# Altium schematic symbol library Seeed-OPL-Button.SCHLIB: 9 symbols
Pins are listed as number, name and electrical type; pins without a type are passive.

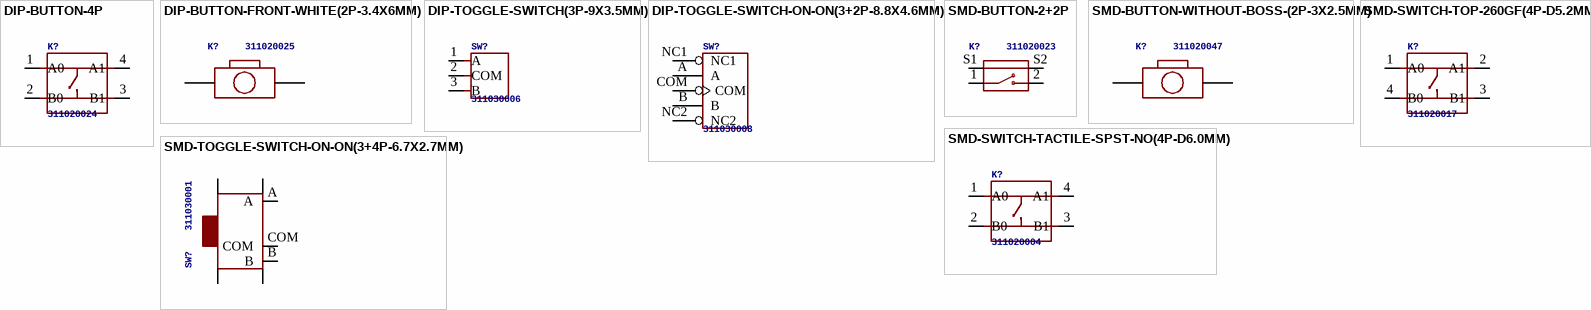
[diagram p0: symbols DIP-BUTTON-4P to SMD-TOGGLE-SWITCH-ON-ON(3+4P-6.7X2.7MM)]

## DIP-BUTTON-4P
designator K?, comment 311020024
MPN: TS-1109
footprint SW4-6.0X6.0X5.0MM
pins: 1 A0, 2 B0, 3 B1, 4 A1

## DIP-BUTTON-FRONT-WHITE(2P-3.4X6MM)
designator K?, comment 311020025
MPN: TS-1101F
footprint SW2-3.4X6.0X3.55MM-90D
pins: P$1 1, P$2 2

## DIP-TOGGLE-SWITCH(3P-9X3.5MM)
designator SW?, comment 311030006
MPN: LD-CCB-001
footprint SW3-2.54-9.0X3.5X3.5+2.0MM
pins: 1 A, 2 COM, 3 B

## DIP-TOGGLE-SWITCH-ON-ON(3+2P-8.8X4.6MM)
designator SW?, comment 311030008
MPN: SK-12D01
footprint SW5-2.0-8.8X4.4X4.7MM-90D
pins: A, B, COM, NC1, NC2

## SMD-BUTTON-2+2P
designator K?, comment 311020023
MPN: TS-1188E
footprint SW4-SMD-7.0X3.5X3.5MM-90D
pins: 1, 2, S1, S2

## SMD-BUTTON-WITHOUT-BOSS-(2P-3X2.5MM)
designator K?, comment 311020047
MPN: B3U-1000P
footprint SW2-SMD-3.0X2.5X1.2+0.4MM
pins: 1, 2

## SMD-SWITCH-TACTILE-SPST-NO(4P-D6.0MM)
designator K?, comment 311020004
MPN: DTSM-62K-S-V-T/R
footprint SW4-SMD-6.0X6.0X5.0MM
pins: 1 A0, 2 B0, 3 B1, 4 A1

## SMD-SWITCH-TOP-260GF(4P-D5.2MM)
designator K?, comment 311020017
MPN: SKQGADE010
footprint SW4-SMD-5.2X5.2X1.5MM
pins: 1 A0, 2 A1, 3 B1, 4 B0

## SMD-TOGGLE-SWITCH-ON-ON(3+4P-6.7X2.7MM)
designator SW?, comment 311030001
MPN: MK-12C02
footprint SW7-SMD-L6.7X2.7X3.2MM
pins: A, B, COM, SS1, SS2, SS3, SS4